# EAGLE library part R1200 (library Custom_old)
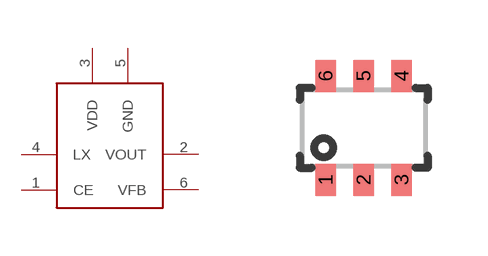
[diagram p28: symbol with the pads of SOT-23-6; footprint SOT-23-6]

Designator prefix -

## R1200SOT-23-6  [SOT-23-6]
1  CE
2  VOUT
3  VDD
4  LX
5  GND
6  VFB

## Footprint SOT-23-6 (pad centres in mm)
smd 0.51 x 0.8: 1 -0.95,-1.3; 2 0,-1.3; 3 0.95,-1.3; 4 0.95,1.3; 5 0,1.3; 6 -0.95,1.3